# EAGLE library part ISO7762QDBQRQ1 (library ds_ic_peripherals)
Digital Isolators Automotive robust E MC six-channel 4/2 A 595-ISO7762QDBQQ1
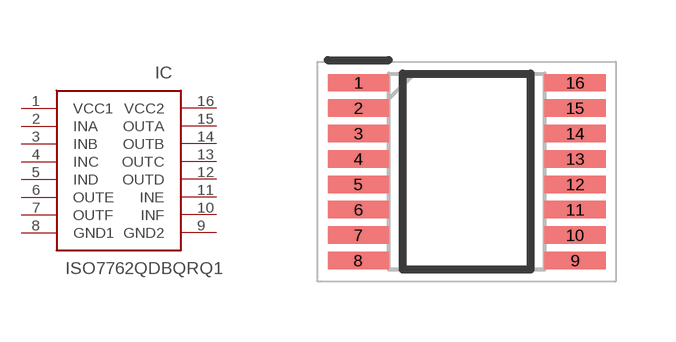
[diagram p79: symbol with the pads of SSOP-16; footprint SSOP-16]

Designator prefix IC

## ISO7762QDBQRQ1 (DATASHEET: https://www.ti.com/general/docs/suppproductinfo.tsp?distId=10&gotoUrl=https%3A%2F%2Fwww.ti.com%2Flit%2Fgpn%2Fiso7762-q1; DESCRIPTION: -40℃~+125℃ 100Mbps 100kV/us 19ns 2 2.25V~5.5V 2.25V~5.5V 3000 4 SSOP-16-150mil Digital Isolators ROHS; LCSC_PART: C2864447; MANUFACTURER: Texas Instruments; MPN: ISO7762QDBQRQ1; ROHS: YES; VALUE: ISO7762)  [SSOP-16]
1  VCC1
2  INA
3  INB
4  INC
5  IND
6  OUTE
7  OUTF
8  GND1
9  GND2
10  INF
11  INE
12  OUTD
13  OUTC
14  OUTB
15  OUTA
16  VCC2

## Footprint SSOP-16 (pad centres in mm)
smd 1.528 x 0.435: 1 -2.711,2.222; 2 -2.711,1.588; 3 -2.711,0.952; 4 -2.711,0.318; 5 -2.711,-0.318; 6 -2.711,-0.952; 7 -2.711,-1.588; 8 -2.711,-2.222; 9 2.711,-2.222; 10 2.711,-1.588; 11 2.711,-0.952; 12 2.711,-0.318; 13 2.711,0.318; 14 2.711,0.952; 15 2.711,1.588; 16 2.711,2.222